# EAGLE library part UBLOX_MAX_BKOUT (library adafruit)
PIN HEADER
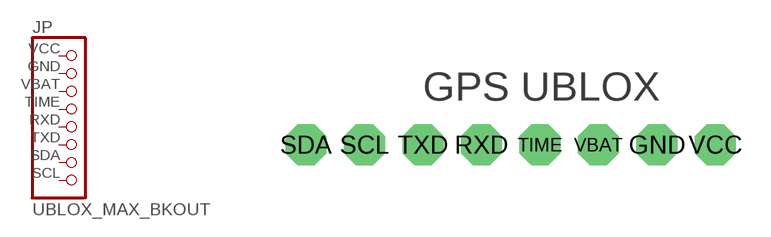
[diagram p25: symbol with the pads of UBLOX_MAX8_BKOUT; footprint UBLOX_MAX8_BKOUT]

Designator prefix JP

## UBLOX_MAX_BKOUTBIG  [UBLOX_MAX8_BKOUT]
GND  GND  pas
RXD  RXD  pas
SCL  SCL  pas
SDA  SDA  pas
TIME  TIME  pas
TXD  TXD  pas
VBAT  VBAT  pas
VCC  VCC  pas

## Footprint UBLOX_MAX8_BKOUT (pad centres in mm)
drill 1.016 pad 1.778 octagon: GND 15.24,0; RXD 7.62,0; SCL 2.54,0; SDA 0,0; TIME 10.16,0; TXD 5.08,0; VBAT 12.7,0; VCC 17.78,0